# Altium schematic symbol library AM6254ATCGHAALW.SchLib: 1 symbol
Pins are listed as number, name and electrical type; pins without a type are passive.

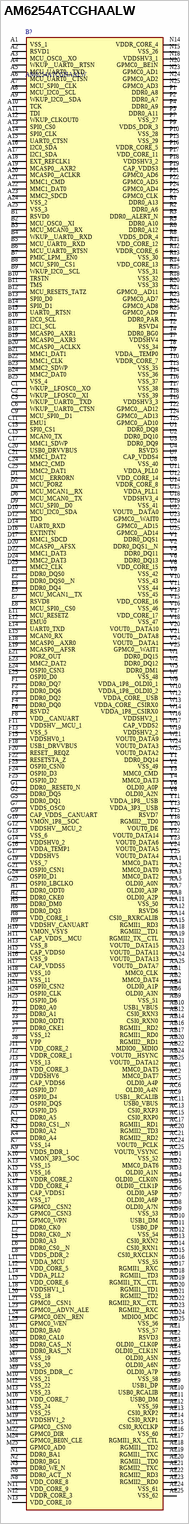
[diagram p0: symbol AM6254ATCGHAALW]

## AM6254ATCGHAALW
designator B?
Microprocessors - MPU Human-machine-interaction SoC with Arm Cortex-A53-based edge AI and full-HD dual display; Manufacturer_Name: Texas Instruments; Geometry.Height: 0.89mm; Manufacturer_Part_Number: AM6254ATCGHAALW; Mouser Part Number: 595-AM6254ATCGHAALW; Mouser Price/Stock: https://www.mouser.co.uk/ProductDetail/Texas-Instruments/AM6254ATCGHAALW?qs=3Rah4i%252BhyCEL0QsorpBJwA%3D%3D; Arrow Part Number: AM6254ATCGHAALW; Arrow Price/Stock: https://www.arrow.com/en/products/am6254atcghaalw/texas-instruments?utm_currency=USD&region=nac; Datasheet Link: https://www.ti.com/lit/ds/symlink/am623.pdf?HQS=dis-mous-null-mousermode-dsf-pf-null-wwe&ts=1699949527929&ref_url=https%253A%252F%252Fwww.mouser.jp%252F
footprint BGA425C50P25X25_1300X1300X89
pins: A1 VSS_1, A2 RSVD1, A3 MCU_OSC0__XO, A4 WKUP__UART0__RTSN, A5 MCU_UART0__TXD, A6 MCU_UART0__CTSN, A7 MCU_SPI0__CLK, A8 MCU_I2C0__SCL, A9 WKUP_I2C0__SDA, A10 TCK, A11 TDI, A12 WKUP_CLKOUT0, A13 SPI0_CS0, A14 SPI0_CLK, A15 UART0_CTSN, A16 I2C0_SDA, A17 I2C1_SDA, A18 EXT_REFCLK1, A19 MCASP0__AXR2, A20 MCASP0__ACLKR, A21 MMC1_CMD, A22 MMC1_DAT0, A23 MMC2_SDCD, A24 VSS_2, A25 VSS_3, AA1 MMC0_DAT1, AA2 MMC0_DAT0, AA3 MMC0_DAT2, AA5 OLDI0_A0N, AA7 OLDI0_A3P, AA8 OLDI0_A2P, AA11 VSS_50, AA12 RSVD6, AA14 CSI0__RXRCALIB, AA15 RGMII1__RD3, AA18 RGMII2__TD1, AA19 RGMII2_TX__CTL, AA21 VOUT0__DATA15, AA23 VOUT0__DATA11, AA24 VOUT0__DATA13, AA25 VOUT0__DATA7, AB1 MMC0_CLK, AB2 MMC0_DAT4, AB4 OLDI0_A1P, AB6 OLDI0_A3N, AB9 VSS_51, AB10 USB1_VBUS, AB12 CSI0_RXN3, AB14 CSI0_RXN0, AB16 RGMII1__RD2, AB17 RGMII1__RD0, AB20 RGMII2__RD1, AB22 MDIO0__MDIO, AB24 VOUT0__HSYNC, AB25 VOUT0__DATA12, AC1 MMC0_DAT5, AC2 MMC0_DAT7, AC5 OLDI0_A4P, AC6 OLDI0_A4N, AC9 USB1__RCALIB, AC11 USB0_VBUS, AC13 CSI0_RXP3, AC15 CSI0_RXP0, AC17 RGMII1__RD1, AC20 RGMII2__TD3, AC21 RGMII2__RD2, AC24 VOUT0__PCLK, AC25 VOUT0_VSYNC, AD1 VSS_52, AD2 MMC0_DAT6, AD3 OLDI0_A1N, AD4 OLDI0__CLK0N, AD5 OLDI0__CLK1P, AD6 OLDI0_A5P, AD7 OLDI0_A6P, AD8 OLDI0_A7N, AD9 VSS_53, AD10 USB1_DM, AD11 USB0_DP, AD12 VSS_54, AD13 CSI0_RXN2, AD14 CSI0_RXN1, AD15 CSI0_RXCLKN, AD16 VSS_55, AD17 RGMII1__RXC, AD18 RGMII1__TD3, AD19 RGMII1_TX__CTL, AD20 RGMII1__TD1, AD21 RGMII2__TD2, AD22 RGMII2_RX__CTL, AD23 RGMII2__RXC, AD24 MDIO0_MDC, AD25 VSS_56, AE1 VSS_57, AE2 RSVD3, AE3 OLDI0__CLK0P, AE4 OLDI0__CLK1N, AE5 OLDI0_A5N, AE6 OLDI0_A6N, AE7 OLDI0_A7P, AE8 VSS_58, AE9 USB1_DP, AE10 USB0_RCALIB, AE11 USB0_DM, AE12 VSS_59, AE13 CSI0_RXP2, AE14 CSI0_RXP1, AE15 CSI0_RXCLKP, AE16 VSS_60, AE17 RGMII1_RX__CTL, AE18 RGMII1__TD2, AE19 RGMII1__TXC, AE20 RGMII1__TD0, AE21 RGMII2__TXC, AE22 RGMII2__RD3, AE23 RGMII2__RD0, AE24 VSS_61, AE25 VSS_62, B1 RSVD0, B2 MCU_OSC0__XI, B3 MCU_MCAN0__RX, B4 WKUP__UART0__RXD, B5 MCU_UART0__RXD, B6 MCU_UART0__RTSN, B7 PMIC_LPM__EN0, B8 MCU_SPI0__CS1, B9 WKUP_I2C0__SCL, B10 TRSTN, B11 TMS, B12 MCU_RESETS_TATZ, B13 SPI0_D0, B14 SPI0_D1, B15 UART0__RTSN, B16 I2C0_SCL, B17 I2C1_SCL, B18 MCASP0__AXR1, B19 MCASP0__AXR3, B20 MCASP0__ACLKX, B21 MMC1_DAT1, B22 MMC1_CLK, B23 MMC2_SDWP, B24 MMC2_DAT0, B25 VSS_4, C1 WKUP__LFOSC0__XO, C2 WKUP__LFOSC0__XI, C5 WKUP__UART0__TXD, C6 WKUP__UART0__CTSN, C9 MCU_SPI0__D1, C11 EMU1, C13 SPI0_CS1, C15 MCAN0_TX, C17 MMC1_SDWP, C20 USB0_DRVVBUS, C21 MMC1_DAT2, C24 MMC2_CMD, C25 MMC2_DAT1, D1 MCU__ERRORN, D2 MCU_PORZ, D4 MCU_MCAN1__RX, D6 MCU_MCAN0__TX, D9 MCU_SPI0__D0, D10 MCU_I2C0__SDA, D12 TDO, D14 UART0_RXD, D16 EXTINTN, D17 MMC1_SDCD, D20 MCASP0__AFSX, D22 MMC1_DAT3, D24 MMC2_DAT3, D25 MMC2_CLK, E1 DDR0_DQS0, E2 DDR0_DQS0__N, E3 DDR0_DQ4, E5 MCU_MCAN1__TX, E7 RSVD8, E8 MCU_SPI0__CS0, E11 MCU_RESETZ, E12 EMU0, E14 UART0_TXD, E15 MCAN0_RX, E18 MCASP0__AXR0, E19 MCASP0__AFSR, E21 PORZ_OUT, E23 MMC2_DAT2, E24 OSPI0_CSN3, E25 OSPI0_D0, F1 DDR0_DQ7, F2 DDR0_DQ6, F3 DDR0_DQ2, F4 DDR0_DQ0, F6 RSVD2, F8 VDD__CANUART, F11 VDDSHV__MCU_1, F13 VSS_5, F15 VDDSHV0_1, F18 USB1_DRVVBUS, F20 RESET__REQZ, F22 RESETSTA_Z, F23 OSPI0_CSN0, F24 OSPI0_D3, F25 OSPI0_D2, G1 DDR0__RESET0_N, G2 DDR0_DQ5, G5 DDR0_DQ1, G7 VDDS_OSC0, G9 CAP_VDDS__CANUART, G10 VMON_1P8__SOC, G12 VDDSHV__MCU_2, G13 VSS_6, G14 VDDSHV0_2, G16 VDDA_TEMP1, G17 VDDSHV5, G19 VSS_7, G21 OSPI0_CSN1, G24 OSPI0_D1, G25 OSPI0_LBCLKO, H1 DDR0_ODT0, H2 DDR0_CKE0, H5 DDR0_DM0, H6 DDR0_DQ3, H8 VDD_CORE_1, H9 VDDSHV_CANUART, H10 VMON_VSYS, H11 CAP_VDDS__MCU, H13 VSS_8, H15 CAP_VDDS0, H16 VSS_9, H17 CAP_VDDS5, H18 VSS_10, H20 VSS_11, H21 OSPI0_CSN2, H24 OSPI0_CLK, H25 OSPI0_D6, J1 DDR0_A0, J2 DDR0_A1, J3 DDR0_ODT1, J4 DDR0_CKE1, J7 VSS_12, J8 VPP, J11 VDD_CORE_2, J12 VDDR_CORE_1, J13 VSS_13, J14 VDD_CORE_3, J18 VDDSHV6, J19 CAP_VDDS6, J22 OSPI0_D7, J23 OSPI0_D4, J24 OSPI0_DQS, J25 OSPI0_D5, K1 DDR0_A5, K2 DDR0_CS1__N, K3 DDR0_A2, K4 DDR0_A4, K7 VSS_14, K9 VDDS_DDR_1, K10 VMON_3P3__SOC, K13 VSS_15, K15 VSS_16, K16 VDDR_CORE_2, K17 VDD_CORE_4, K18 CAP_VDDS1, K19 VSS_17, K22 GPMC0__CSN2, K24 GPMC0__CSN3, K25 GPMC0_WPN, L1 DDR0_CK0, L2 DDR0_CK0__N, L5 DDR0_A3, L6 DDR0_CS0__N, L8 VDDS_DDR_2, L11 VDDA_MCU, L12 VDD_CORE_5, L14 VDDA_PLL2, L15 VDD_CORE_6, L18 VDDSHV1_1, L20 VSS_18, L21 GPMC0__CSN1, L23 GPMC0__ADVN_ALE, L24 GPMC0_OEN__REN, L25 GPMC0_WEN, M1 DDR0_BA0, M2 DDR0_CAL0, M4 DDR0_CAS__N, M5 DDR0_RAS__N, M7 VSS_19, M8 VSS_20, M9 VDDS_DDR__C, M10 VSS_21, M12 VSS_22, M13 VSS_23, M16 VDD_CORE_7, M17 VSS_24, M18 VSS_25, M19 VDDSHV1_2, M21 GPMC0__CSN0, M22 GPMC0_DIR, M24 GPMC0_BE0N_CLE, M25 GPMC0_AD0, N1 DDR0_BA1, N2 DDR0_BG1, N3 DDR0_WE_N, N6 DDR0_ACT__N, N8 VDD_CORE_8, N11 VDD_CORE_9, N12 VDDR_CORE_3, N13 VDD_CORE_10, N14 VDDR_CORE_4, N15 VSS_26, N18 VDDSHV3_1, N20 GPMC0__BE1N, N23 GPMC0_AD1, N24 GPMC0_AD2, N25 GPMC0_AD3, P1 DDR0_A8, P2 DDR0_A7, P4 DDR0_A9, P5 DDR0_A11, P7 VSS_27, P9 VDDS_DDR_3, P10 VSS_28, P13 VSS_29, P16 VDDR_CORE_5, P17 VDD_CORE_11, P18 VDDSHV3_2, P19 CAP_VDDS3, P21 GPMC0_AD6, P22 GPMC0_AD5, P24 GPMC0_AD4, P25 GPMC0_CLK, R1 DDR0_A13, R2 DDR0_A6, R3 DDR0__ALERT_N, R5 DDR0_A10, R6 DDR0_A12, R8 VDDS_DDR_4, R11 VDD_CORE_12, R12 VDDR_CORE_6, R13 VSS_30, R14 VDD_CORE_13, R15 VSS_31, R18 VSS_32, R20 VSS_33, R21 GPMC0__AD11, R23 GPMC0_AD7, R24 GPMC0_AD8, R25 GPMC0_AD9, T1 DDR0_PAR, T2 RSVD4, T4 DDR0_BG0, T7 VDDSHV4, T8 VSS_34, T9 VDDA__TEMP0, T10 VDDR_CORE_7, T13 VSS_35, T14 VSS_36, T16 VSS_37, T17 VSS_38, T18 VSS_39, T19 VDDSHV3_3, T22 GPMC0__AD12, T24 GPMC0__AD13, T25 GPMC0__AD10, U1 DDR0_DQ8, U2 DDR0_DQ10, U3 DDR0_DQ9, U4 RSVD5, U7 CAP_VDDS4, U8 VSS_40, U11 VDDA_PLL0, U12 VDD_CORE_14, U14 VDDR_CORE_8, U15 VDDA_PLL1, U18 VDDSHV3_4, U19 VSS_41, U22 VOUT0__DATA0, U23 GPMC0__WAIT0, U24 GPMC0__AD15, U25 GPMC0__AD14, V1 DDR0_DQS1, V2 DDR0_DQS1__N, V5 DDR0_DQ11, V6 DDR0_DQ13, V8 VDD_CORE_15, V9 VSS_42, V10 VSS_43, V11 VSS_44, V13 VSS_45, V15 VDD_CORE_16, V16 VSS_46, V17 VDD_CORE_17, V18 VSS_47, V20 VOUT0__DATA10, V21 VOUT0__DATA8, V24 VOUT0__DATA1, V25 GPMC0__WAIT1, W1 DDR0_DQ15, W2 DDR0_DQ12, W5 DDR0_DM1, W7 VSS_48, W9 VDDA_1P8__OLDI0_1, W10 VDDA_1P8__OLDI0_2, W12 VDDA_CORE__USB, W13 VDDA_CORE__CSIRX0, W14 VDDA_1P8__CSIRX0, W16 VDDSHV2_1, W17 CAP_VDDS2, W19 VDDSHV2_2, W21 VOUT0_DATA9, W24 VOUT0_DATA3, W25 VOUT0_DATA2, Y1 DDR0_DQ14, Y2 VSS_49, Y3 MMC0_CMD, Y4 MMC0_DAT3, Y6 OLDI0_A0P, Y8 OLDI0_A2N, Y11 VDDA_1P8__USB, Y13 VDDA_3P3__USB, Y15 RSVD7, Y18 RGMII2__TD0, Y20 VOUT0_DE, Y22 VOUT0_DATA14, Y23 VOUT0_DATA6, Y24 VOUT0_DATA5, Y25 VOUT0_DATA4